# EAGLE library part 612X1420621 (library Wire-to-Board (rev18a))
WR-BHD 2.54mm Male SMT Box Header High Temperature, 14 Pins=>Code : Con_WTB_BHD_2.54_Male_SMT_612X1420621(X=0;X=3) <http://katalog.we-online.de/media/thumbs2/eican/thb_Con_WTB_BHD_2.54_Male_SMT_6120xx20621_pf2.jpg> 6123XX20621: http://katalog.we-online.de/en/em/BHD_2_54_SMT_MALE_BOX_HEADER_REEL_6123XX20621 6120XX20621: http://katalog.we-online.de/en/em/612_0xx_206_21 Created 2014-06-05, Karrer Zheng 2014 (C) Würth Elektronik
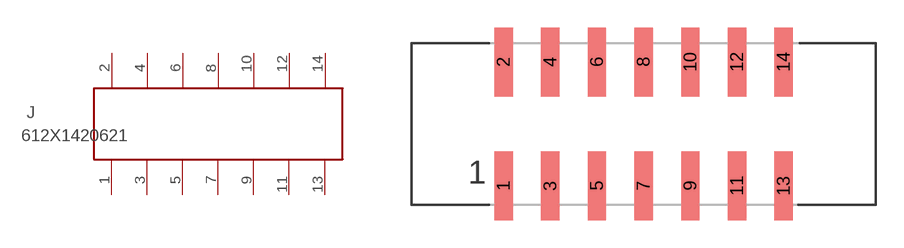
[diagram p103: symbol with the pads of 612X1420621; footprint 612X1420621]

Designator prefix J

## 612X1420621  [612X1420621]
1  1  pas
2  2  pas
3  3  pas
4  4  pas
5  5  pas
6  6  pas
7  7  pas
8  8  pas
9  9  pas
10  10  pas
11  11  pas
12  12  pas
13  13  pas
14  14  pas

## Footprint 612X1420621 (pad centres in mm)
WR-BHD 2.54mm Male SMT Box Header High Temperature, 14 pins
smd 1 x 3.75: 1 -7.62,-3.375; 2 -7.62,3.375; 3 -5.08,-3.375; 4 -5.08,3.375; 5 -2.54,-3.375; 6 -2.54,3.375; 7 0,-3.375; 8 0,3.375; 9 2.54,-3.375; 10 2.54,3.375; 11 5.08,-3.375; 12 5.08,3.375; 13 7.62,-3.375; 14 7.62,3.375